# Altium integrated library Altium_Inductor.IntLib: 43 symbols (part 2 of 2)
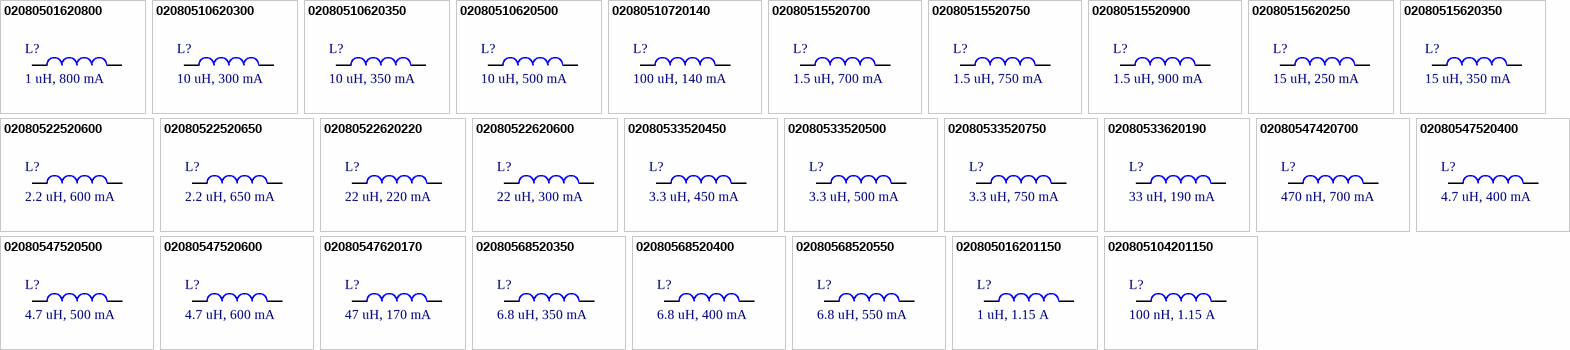
[diagram p2: symbols 02080501620800 to 020805104201150]

## 02080547520400
designator L?, comment 4.7 uH, 400 mA
Inductor SMD, size 0805, 4.7 uH, 400 mA; Manufacture Name: TDK; Manufacture SN: MLZ2012M4R7HTD25; Inductance: 4.7 uH; Tolerance: 20%; Maximum DC Current: 400 mA; Maximum DC Resistance: 340 mOhms; Saturation Current: 300 mA; ComponentLink2Description: Supplier 1 URL; ComponentLink2URL: https://www.mouser.vn/ProductDetail/TDK/MLZ2012M4R7HTD25?qs=u4%252BEJ9urDATrVDfq8dpBZA%3D%3D; Mounting Technology: SMT; Operating Temperature: -55 to +125degC; Packaging: Tape and Reel; Size: 0805; Supplier 1 Name: Mouser; Supplier 1 SN: 810-MLZ2012M4R7HTD25; Supplier 1 URL: https://www.mouser.vn/ProductDetail/TDK/MLZ2012M4R7HTD25?qs=u4%252BEJ9urDATrVDfq8dpBZA%3D%3D; Supplier 2 Name: Digi-Key; Supplier 2 SN: 445-17080-2-ND; Supplier 2 URL: https://www.digikey.com/en/products/detail/tdk-corporation/MLZ2012M4R7HTD25/4743206; Supplier 3 Name: thegioiic; Supplier 3 SN: OEM; Supplier 3 URL: N/A; ComponentLink1Description: Datasheet; ComponentLink1URL: https://product.tdk.com/system/files/dam/doc/product/inductor/inductor/smd/catalog/inductor_automotive_decoupling_mlz2012_en.pdf?ref_disty=mouser; ComponentLink3Description: Supplier 2 URL; ComponentLink3URL: https://www.digikey.com/en/products/detail/tdk-corporation/MLZ2012M4R7HTD25/4743206; ComponentLink4Description: Supplier 3 URL; Value: 4.7 uH, 400 mA
footprint 0805 (Chip Inductor, 2-Leads, Body 2.05x1.30mm, IPC Medium Density)
pins: 1, 2

## 02080547520500
designator L?, comment 4.7 uH, 500 mA
Inductor SMD, size 0805, 4.7 uH, 500 mA; Manufacture Name: TDK; Manufacture SN: MLZ2012M4R7WTD25; Inductance: 4.7 uH; Tolerance: 20%; Maximum DC Current: 500 mA; Maximum DC Resistance: 300 mOhms; Saturation Current: 180 mA; ComponentLink2Description: Supplier 1 URL; ComponentLink2URL: https://www.mouser.vn/ProductDetail/TDK/MLZ2012M4R7WTD25?qs=u4%252BEJ9urDAQij%252Bv7h558gQ%3D%3D; Mounting Technology: SMT; Operating Temperature: -55 to +125degC; Packaging: Tape and Reel; Size: 0805; Supplier 1 Name: Mouser; Supplier 1 SN: 810-MLZ2012M4R7WTD25; Supplier 1 URL: https://www.mouser.vn/ProductDetail/TDK/MLZ2012M4R7WTD25?qs=u4%252BEJ9urDAQij%252Bv7h558gQ%3D%3D; Supplier 2 Name: Digi-Key; Supplier 2 SN: 445-17081-2-ND; Supplier 2 URL: https://www.digikey.com/en/products/detail/tdk-corporation/MLZ2012M4R7WTD25/4743188; Supplier 3 Name: thegioiic; Supplier 3 SN: OEM; Supplier 3 URL: N/A; ComponentLink1Description: Datasheet; ComponentLink1URL: https://product.tdk.com/system/files/dam/doc/product/inductor/inductor/smd/catalog/inductor_automotive_decoupling_mlz2012_en.pdf?ref_disty=mouser; ComponentLink3Description: Supplier 2 URL; ComponentLink3URL: https://www.digikey.com/en/products/detail/tdk-corporation/MLZ2012M4R7WTD25/4743188; ComponentLink4Description: Supplier 3 URL; Value: 4.7 uH, 500 mA
footprint 0805 (Chip Inductor, 2-Leads, Body 2.05x1.30mm, IPC Medium Density)
pins: 1, 2

## 02080547520600
designator L?, comment 4.7 uH, 600 mA
Inductor SMD, size 0805, 4.7 uH, 600 mA; Manufacture Name: TDK; Manufacture SN: MLZ2012N4R7LTD25; Inductance: 4.7 uH; Tolerance: 20%; Maximum DC Current: 600 mA; Maximum DC Resistance: 180 mOhms; Saturation Current: 130 mA; ComponentLink2Description: Supplier 1 URL; ComponentLink2URL: https://www.mouser.vn/ProductDetail/TDK/MLZ2012N4R7LTD25?qs=u4%252BEJ9urDASpSZamVZFpmA%3D%3D; Mounting Technology: SMT; Operating Temperature: -55 to +125degC; Packaging: Tape and Reel; Size: 0805; Supplier 1 Name: Mouser; Supplier 1 SN: 810-MLZ2012N4R7LTD25; Supplier 1 URL: https://www.mouser.vn/ProductDetail/TDK/MLZ2012N4R7LTD25?qs=u4%252BEJ9urDASpSZamVZFpmA%3D%3D; Supplier 2 Name: Digi-Key; Supplier 2 SN: 445-16383-2-ND; Supplier 2 URL: https://www.digikey.com/en/products/detail/tdk-corporation/MLZ2012N4R7LTD25/4743199; Supplier 3 Name: thegioiic; Supplier 3 SN: OEM; Supplier 3 URL: N/A; ComponentLink1Description: Datasheet; ComponentLink1URL: https://product.tdk.com/system/files/dam/doc/product/inductor/inductor/smd/catalog/inductor_automotive_decoupling_mlz2012_en.pdf?ref_disty=mouser; ComponentLink3Description: Supplier 2 URL; ComponentLink3URL: https://www.digikey.com/en/products/detail/tdk-corporation/MLZ2012N4R7LTD25/4743199; ComponentLink4Description: Supplier 3 URL; Value: 4.7 uH, 600 mA
footprint 0805 (Chip Inductor, 2-Leads, Body 2.05x1.30mm, IPC Medium Density)
pins: 1, 2

## 02080547620170
designator L?, comment 47 uH, 170 mA
Inductor SMD, size 0805, 47 uH, 170 mA; Manufacture Name: TDK; Manufacture SN: MLZ2012M470WTD25; Inductance: 47 uH; Tolerance: 20%; Maximum DC Current: 170 mA; Maximum DC Resistance: 3.7 Ohms; Saturation Current: 50 mA; ComponentLink2Description: Supplier 1 URL; ComponentLink2URL: https://www.mouser.vn/ProductDetail/TDK/MLZ2012M470WTD25?qs=u4%252BEJ9urDAR3jn7UMWkPUQ%3D%3D; Mounting Technology: SMT; Operating Temperature: -55 to +125degC; Packaging: Tape and Reel; Size: 0805; Supplier 1 Name: Mouser; Supplier 1 SN: 810-MLZ2012M470WTD25; Supplier 1 URL: https://www.mouser.vn/ProductDetail/TDK/MLZ2012M470WTD25?qs=u4%252BEJ9urDAR3jn7UMWkPUQ%3D%3D; Supplier 2 Name: Digi-Key; Supplier 2 SN: 445-17079-2-ND; Supplier 2 URL: https://www.digikey.com/en/products/detail/tdk-corporation/MLZ2012M470WTD25/4743194; Supplier 3 Name: thegioiic; Supplier 3 SN: OEM; Supplier 3 URL: N/A; ComponentLink1Description: Datasheet; ComponentLink1URL: https://product.tdk.com/system/files/dam/doc/product/inductor/inductor/smd/catalog/inductor_automotive_decoupling_mlz2012_en.pdf?ref_disty=mouser; ComponentLink3Description: Supplier 2 URL; ComponentLink3URL: https://www.digikey.com/en/products/detail/tdk-corporation/MLZ2012M470WTD25/4743194; ComponentLink4Description: Supplier 3 URL; Value: 47 uH, 170 mA
footprint 0805 (Chip Inductor, 2-Leads, Body 2.05x1.30mm, IPC Medium Density)
pins: 1, 2

## 02080568520350
designator L?, comment 6.8 uH, 350 mA
Inductor SMD, size 0805, 6.8 uH, 350 mA; Manufacture Name: TDK; Manufacture SN: MLZ2012M6R8HTD25; Inductance: 6.8 uH; Tolerance: 20%; Maximum DC Current: 350 mA; Maximum DC Resistance: 400 mOhms; Saturation Current: 220 mA; ComponentLink2Description: Supplier 1 URL; ComponentLink2URL: https://www.mouser.vn/ProductDetail/TDK/MLZ2012M6R8HTD25?qs=YdQ7Kj7W0bzS66dbWGL5AA%3D%3D; Mounting Technology: SMT; Operating Temperature: -55 to +125degC; Packaging: Tape and Reel; Size: 0805; Supplier 1 Name: Mouser; Supplier 1 SN: 810-MLZ2012M6R8HTD25; Supplier 1 URL: https://www.mouser.vn/ProductDetail/TDK/MLZ2012M6R8HTD25?qs=YdQ7Kj7W0bzS66dbWGL5AA%3D%3D; Supplier 2 Name: Digi-Key; Supplier 2 SN: 445-181777-2-ND; Supplier 2 URL: https://www.digikey.com/en/products/detail/tdk-corporation/MLZ2012M6R8HTD25/5286374; Supplier 3 Name: thegioiic; Supplier 3 SN: OEM; Supplier 3 URL: N/A; ComponentLink1Description: Datasheet; ComponentLink1URL: https://product.tdk.com/system/files/dam/doc/product/inductor/inductor/smd/catalog/inductor_automotive_decoupling_mlz2012_en.pdf?ref_disty=mouser; ComponentLink3Description: Supplier 2 URL; ComponentLink3URL: https://www.digikey.com/en/products/detail/tdk-corporation/MLZ2012M6R8HTD25/5286374; ComponentLink4Description: Supplier 3 URL; Value: 6.8 uH, 350 mA
footprint 0805 (Chip Inductor, 2-Leads, Body 2.05x1.30mm, IPC Medium Density)
pins: 1, 2

## 02080568520400
designator L?, comment 6.8 uH, 400 mA
Inductor SMD, size 0805, 6.8 uH, 400 mA; Manufacture Name: TDK; Manufacture SN: MLZ2012M6R8WTD25; Inductance: 6.8 uH; Tolerance: 20%; Maximum DC Current: 400 mA; Maximum DC Resistance: 400 mOhms; Saturation Current: 160 mA; ComponentLink2Description: Supplier 1 URL; ComponentLink2URL: https://www.mouser.vn/ProductDetail/TDK/MLZ2012M6R8WTD25?qs=u4%252BEJ9urDATUrpah%252Btk67w%3D%3D; Mounting Technology: SMT; Operating Temperature: -55 to +125degC; Packaging: Tape and Reel; Size: 0805; Supplier 1 Name: Mouser; Supplier 1 SN: 810-MLZ2012M6R8WTD25; Supplier 1 URL: https://www.mouser.vn/ProductDetail/TDK/MLZ2012M6R8WTD25?qs=u4%252BEJ9urDATUrpah%252Btk67w%3D%3D; Supplier 2 Name: Digi-Key; Supplier 2 SN: 445-17082-2-ND; Supplier 2 URL: https://www.digikey.com/en/products/detail/tdk-corporation/MLZ2012M6R8WTD25/4743189; Supplier 3 Name: thegioiic; Supplier 3 SN: OEM; Supplier 3 URL: N/A; ComponentLink1Description: Datasheet; ComponentLink1URL: https://product.tdk.com/system/files/dam/doc/product/inductor/inductor/smd/catalog/inductor_automotive_decoupling_mlz2012_en.pdf?ref_disty=mouser; ComponentLink3Description: Supplier 2 URL; ComponentLink3URL: https://www.digikey.com/en/products/detail/tdk-corporation/MLZ2012M6R8WTD25/4743189; ComponentLink4Description: Supplier 3 URL; Value: 6.8 uH, 400 mA
footprint 0805 (Chip Inductor, 2-Leads, Body 2.05x1.30mm, IPC Medium Density)
pins: 1, 2

## 02080568520550
designator L?, comment 6.8 uH, 550 mA
Inductor SMD, size 0805, 6.8 uH, 550 mA; Manufacture Name: TDK; Manufacture SN: MLZ2012N6R8LTD25; Inductance: 6.8 uH; Tolerance: 20%; Maximum DC Current: 550 mA; Maximum DC Resistance: 250 mOhms; Saturation Current: 110 mA; ComponentLink2Description: Supplier 1 URL; ComponentLink2URL: https://www.mouser.vn/ProductDetail/TDK/MLZ2012N6R8LTD25?qs=u4%252BEJ9urDAQdlO5mszI1EQ%3D%3D; Mounting Technology: SMT; Operating Temperature: -55 to +125degC; Packaging: Tape and Reel; Size: 0805; Supplier 1 Name: Mouser; Supplier 1 SN: 810-MLZ2012N6R8LTD25; Supplier 1 URL: https://www.mouser.vn/ProductDetail/TDK/MLZ2012N6R8LTD25?qs=u4%252BEJ9urDAQdlO5mszI1EQ%3D%3D; Supplier 2 Name: Digi-Key; Supplier 2 SN: 445-16384-2-ND; Supplier 2 URL: https://www.digikey.com/en/products/detail/tdk-corporation/MLZ2012N6R8LTD25/4743200; Supplier 3 Name: thegioiic; Supplier 3 SN: OEM; Supplier 3 URL: N/A; ComponentLink1Description: Datasheet; ComponentLink1URL: https://product.tdk.com/system/files/dam/doc/product/inductor/inductor/smd/catalog/inductor_automotive_decoupling_mlz2012_en.pdf?ref_disty=mouser; ComponentLink3Description: Supplier 2 URL; ComponentLink3URL: https://www.digikey.com/en/products/detail/tdk-corporation/MLZ2012N6R8LTD25/4743200; ComponentLink4Description: Supplier 3 URL; Value: 6.8 uH, 550 mA
footprint 0805 (Chip Inductor, 2-Leads, Body 2.05x1.30mm, IPC Medium Density)
pins: 1, 2

## 020805016201150
designator L?, comment 1 uH, 1.15 A
Inductor SMD, size 0805, 1 uH, 1.15 A; Manufacture Name: TDK; Manufacture SN: MLZ2012N1R0LTD25; Inductance: 1 uH; Tolerance: 20%; Maximum DC Current: 1.15 A; Maximum DC Resistance: 60 mOhms; Saturation Current: 220 mA; ComponentLink2Description: Supplier 1 URL; ComponentLink2URL: https://www.mouser.vn/ProductDetail/TDK/MLZ2012N1R0LTD25?qs=u4%252BEJ9urDATo3oIAAwLY%252BQ%3D%3D; Mounting Technology: SMT; Operating Temperature: -55 to +125degC; Packaging: Tape and Reel; Size: 0805; Supplier 1 Name: Mouser; Supplier 1 SN: 810-MLZ2012N1R0LTD25; Supplier 1 URL: https://www.mouser.vn/ProductDetail/TDK/MLZ2012N1R0LTD25?qs=u4%252BEJ9urDATo3oIAAwLY%252BQ%3D%3D; Supplier 2 Name: Digi-Key; Supplier 2 SN: 445-16378-2-ND; Supplier 2 URL: https://www.digikey.com/en/products/detail/tdk-corporation/MLZ2012N1R0LTD25/4743195; Supplier 3 Name: thegioiic; Supplier 3 SN: OEM; Supplier 3 URL: N/A; ComponentLink1Description: Datasheet; ComponentLink1URL: https://product.tdk.com/system/files/dam/doc/product/inductor/inductor/smd/catalog/inductor_automotive_decoupling_mlz2012_en.pdf?ref_disty=mouser; ComponentLink3Description: Supplier 2 URL; ComponentLink3URL: https://www.digikey.com/en/products/detail/tdk-corporation/MLZ2012N1R0LTD25/4743195; ComponentLink4Description: Supplier 3 URL; Value: 1 uH, 1.15 A
footprint 0805 (Chip Inductor, 2-Leads, Body 2.05x1.30mm, IPC Medium Density)
pins: 1, 2

## 020805104201150
designator L?, comment 100 nH, 1.15 A
Inductor SMD, size 0805, 100 nH, 1.15 A; Manufacture Name: TDK; Manufacture SN: MLZ2012DR10DTD25; Inductance: 100 nH; Tolerance: 20%; Maximum DC Current: 1.15 A; Maximum DC Resistance: 70 mOhms; Saturation Current: 1 A; ComponentLink2Description: Supplier 1 URL; ComponentLink2URL: https://www.mouser.vn/ProductDetail/TDK/MLZ2012DR10DTD25?qs=u4%252BEJ9urDASL0ZjuDlQmDQ%3D%3D; Mounting Technology: SMT; Operating Temperature: -55 to +125degC; Packaging: Tape and Reel; Size: 0805; Supplier 1 Name: Mouser; Supplier 1 SN: 810-MLZ2012DR10DTD25; Supplier 1 URL: https://www.mouser.vn/ProductDetail/TDK/MLZ2012DR10DTD25?qs=u4%252BEJ9urDASL0ZjuDlQmDQ%3D%3D; Supplier 2 Name: Digi-Key; Supplier 2 SN: 445-MLZ2012DR10DTD25TR-ND; Supplier 2 URL: https://www.digikey.com/en/products/detail/tdk-corporation/MLZ2012DR10DTD25/4743181; Supplier 3 Name: thegioiic; Supplier 3 SN: OEM; Supplier 3 URL: N/A; ComponentLink1Description: Datasheet; ComponentLink1URL: https://product.tdk.com/system/files/dam/doc/product/inductor/inductor/smd/catalog/inductor_automotive_decoupling_mlz2012_en.pdf?ref_disty=mouser; ComponentLink3Description: Supplier 2 URL; ComponentLink3URL: https://www.digikey.com/en/products/detail/tdk-corporation/MLZ2012DR10DTD25/4743181; ComponentLink4Description: Supplier 3 URL; Value: 100 nH, 1.15 A
footprint 0805 (Chip Inductor, 2-Leads, Body 2.05x1.30mm, IPC Medium Density)
pins: 1, 2